# Altium footprint library Footprints.PcbLib: 43 footprints (part 2 of 3)
Each footprint in its own frame and in the unit in brackets; x right, y up, seen from the top. Pads: shape width x height; smd on the part's side, far side on the other; paste and mask are expansions set on the pad; w line width, h text height; cw(c..) or ccw(c..) is an arc to the next point about the centre after c.
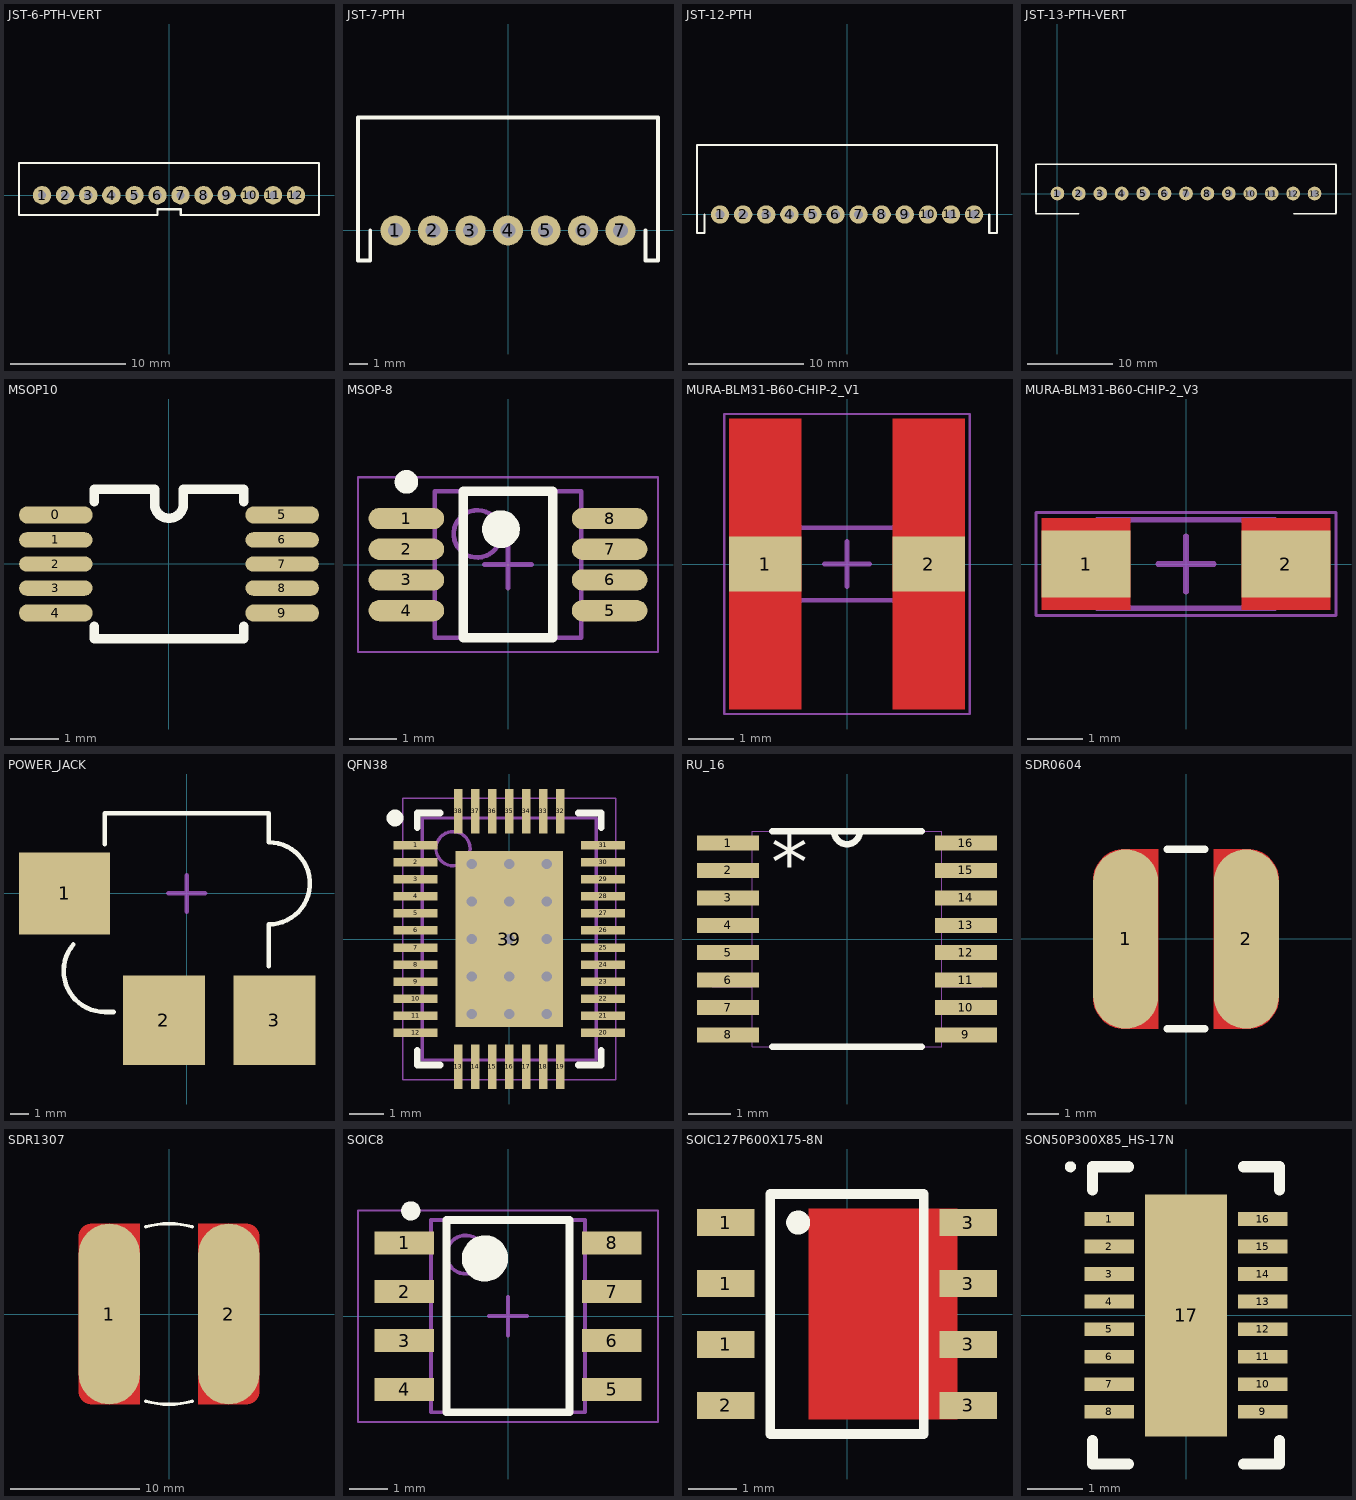
[diagram p1: the footprints below, top view; thin cyan lines are the x and y axes]

## JST-6-PTH-VERT [mil]
pads (12):
  round 63 hole 28: 1(-433.07,0) 2(-354.33,0) 3(-275.59,0) 4(-196.59,0) 5(-117.59,0) 6(-39.37,0) 7(39.37,0) 8(118.11,0) 9(196.85,0) 10(275.85,0) 11(354.85,0) 12(433.07,0)
Top Overlay:
  lines w8: -511.81,-67.84 -511.81,110 511.81,110 511.81,-67.84 40,-67.84 40,-48.16 -39.37,-48.16 -39.37,-67.84 -511.81,-67.84
3D body "B12B-PH-K-S.STEP": height 236.22, standoff -133.86, extent -511.81,-70.87 507.87,106.3

## JST-7-PTH [mil]
pads (7):
  round 63 hole 31.5: 1(-236.48,0) 2(-157.74,0) 3(-79,0) 4(0,0) 5(79,0) 6(157.22,0) 7(235.96,0)
Top Overlay:
  lines w8: -315.22,237 -315.22,-62.99 -289.63,-62.99 -289.63,0 ; -314.96,237 314.96,237 314.96,-62.99 288.96,-62.99 288.96,0
3D body "B7B-PH-SM4-TB.STEP": height 197.83, standoff -77.76, extent -356.3,-7.87 350.39,251.97

## JST-12-PTH [mil]
pads (12):
  round 63 hole 31.5: 1(-433.07,0) 2(-354.33,0) 3(-275.59,0) 4(-196.59,0) 5(-117.59,0) 6(-39.37,0) 7(39.37,0) 8(118.11,0) 9(197.11,0) 10(276.11,0) 11(354.59,0) 12(433.59,0)
Top Overlay:
  lines w8: -486.22,0 -486.22,-62.99 -511.81,-62.99 -511.81,237 511.81,237 511.81,-62.99 485.81,-62.99 485.81,0

## JST-13-PTH-VERT [mil]
pads (13):
  round 63 hole 31.5: 1(0,0) 2(98.43,0) 3(196.85,0) 4(295.28,0) 5(393.7,0) 6(492.13,0) 7(590.55,0) 8(688.98,0) 9(787.4,0) 10(885.83,0) 11(984.25,0) 12(1082.68,0) 13(1181.1,0)
Top Overlay:
  lines w8: -98.43,-92.52 98.43,-92.52 ; -98.43,-86.61 -98.43,133.86 1279.53,133.86 ; 1086.61,-92.52 1277.56,-92.52 1279.53,-90.55 1279.53,129.92
3D body "B13B-XH-A.STEP": height 275.59, standoff -133.86, extent -96.46,-93.51 1277.56,132.87

## MSOP10 [mm]
pads (10):
  oval 1.53x0.36 smd mask+0.076: 0(-2.352,1.02) 4(-2.352,-1.02) 5(2.353,1.02) 9(2.353,-1.02)
  oval 1.53x0.32 smd mask+0.076: 1(-2.352,0.5) 2(-2.352,0) 3(-2.352,-0.5) 6(2.353,0.5) 7(2.353,0) 8(2.353,-0.5)
Top Overlay:
  lines w0.2: -1.55,-1.3 -1.55,-1.55 1.55,-1.55 1.55,-1.3 ; -1.55,1.3 -1.55,1.55 -0.3,1.55 -0.3,1.25 ccw(c0,1.25) 0.3,1.25 0.3,1.55 1.55,1.55 1.55,1.3
3D body: height 1, standoff 0, extent -1.5,-1.5 1.5,1.5

## MSOP-8 [mm] "SOP, 8-Leads, Body 3x3mm, Pitch 0.65mm, IPC Medium Density"
pads (8):
  oval 1.6x0.45 smd: 1(-2.15,0.975) 2(-2.15,0.325) 3(-2.15,-0.325) 4(-2.15,-0.975) 5(2.15,-0.975) 6(2.15,-0.325) 7(2.15,0.325) 8(2.15,0.975)
Top Overlay:
  circle w0.25: c-2.15,1.75 r0.125
  circle w0.4: c-0.15,0.75 r0.2
  lines w0.2: -0.95,-1.55 -0.95,1.55 0.95,1.55 0.95,-1.55 -0.95,-1.55
Mechanical 13:
  circle w0.1: c-0.65,0.65 r0.5
  lines w0.1: -1.55,-1.55 -1.55,1.55 1.55,1.55 1.55,-1.55 -1.55,-1.55
Mechanical 15:
  lines w0.05: -3.175,-1.85 -3.175,1.85 3.175,1.85 3.175,-1.85 -3.175,-1.85
  lines w0.1: -0.5,0 0.5,0 ; 0,-0.5 0,0.5
3D body: height 0.05, standoff 0, extent -1.55,-1.55 1.55,1.55

## MURA-BLM31-B60-CHIP-2_V1 [mm] "Hand Drawn, 2-Leads, Body 3.2x1.6mm, Pitch 3.6mm, 18um Land Pad Thickness"
height 1.3
pads (2):
  rect 1.6x1.2 smd mask+0: 1(-1.8,0) 2(1.8,0)
Top Layer:
  region: 2.6,3.2 1,3.2 1,-3.2 2.6,-3.2
  rectangle: -2.6,-3.2 -1,3.2
Mechanical 6:
  text "Land Pattern Adapted for 18um Land Pad Thickness" at -2.275,3.5 h0.1
Mechanical 13:
  lines w0.1: -1.6,-0.8 -1.6,0.8 1.6,0.8 1.6,-0.8 -1.6,-0.8
Mechanical 15:
  lines w0.05: -2.7,-3.3 -2.7,3.3 2.7,3.3 2.7,-3.3 -2.7,-3.3
  lines w0.1: -0.5,0 0.5,0 ; 0,-0.5 0,0.5
3D body: height 1.3, standoff 0, extent -1.6,-0.8 1.6,0.8

## MURA-BLM31-B60-CHIP-2_V3 [mm] "Chip Ferrite Bead, 2-Leads, Body 3.2x1.6mm, Height 1.3mm, 70um Land Pad Thickness, 6A Rated Current"
height 1.3
pads (2):
  rect 1.6x1.2 smd: 1(-1.8,0) 2(1.8,0)
Top Layer:
  rectangle: -2.6,-0.825 -1,0.825
  region: 2.6,0.825 1,0.825 1,-0.825 2.6,-0.825
Mechanical 13:
  lines w0.1: -1.6,-0.8 1.6,-0.8 1.6,0.8 -1.6,0.8 -1.6,-0.8
Mechanical 15:
  lines w0.05: -2.7,-0.925 2.7,-0.925 2.7,0.925 -2.7,0.925 -2.7,-0.925
  lines w0.1: -0.5,0 0.5,0 ; 0,-0.5 0,0.5
3D body: height 1.3, standoff 0, extent -1.6,-0.8 1.6,0.8

## POWER_JACK [mm]
pads (3):
  rect 5x4.5 smd: 1(-6.7,0)
  rect 4.5x4.9 smd: 2(-1.25,-6.95) 3(4.8,-6.95)
Top Overlay:
  lines w0.254: -6.224,-2.804 ccw(c-4.5,-4.25) -4.5,-6.5 -4,-6.5 ; -4.5,2.7 -4.5,4.4 4.5,4.4 4.5,2.8 cw(c4.5,0.55) 4.5,-1.7 4.5,-4
Mechanical 15:
  lines w0.254: -1,0 1,0 ; 0,-1 0,1
3D body "pj-070bh-smt.stp": height 14.1, standoff 0, extent -8.35,-8.9 7.135,4.4

## QFN38 [mm] "QFN, 38-Leads, Body 5,00x7,00mm, Pitch 0,50mm, Thermal Pad 3,25x5,75mm, IPC Medium Density"
height 0.75
pads (39):
  rect 1.3x0.25 smd: 1(-2.75,2.75) 2(-2.75,2.25) 3(-2.75,1.75) 4(-2.75,1.25) 5(-2.75,0.75) 6(-2.75,0.25) 7(-2.75,-0.25) 8(-2.75,-0.75) 9(-2.75,-1.25) 10(-2.75,-1.75) 11(-2.75,-2.25) 12(-2.75,-2.75) 20(2.75,-2.75) 21(2.75,-2.25) 22(2.75,-1.75) 23(2.75,-1.25) 24(2.75,-0.75) 25(2.75,-0.25) 26(2.75,0.25) 27(2.75,0.75) 28(2.75,1.25) 29(2.75,1.75) 30(2.75,2.25) 31(2.75,2.75)
  rect 0.25x1.3 smd: 13(-1.5,-3.75) 14(-1,-3.75) 15(-0.5,-3.75) 16(0,-3.75) 17(0.5,-3.75) 18(1,-3.75) 19(1.5,-3.75) 32(1.5,3.75) 33(1,3.75) 34(0.5,3.75) 35(0,3.75) 36(-0.5,3.75) 37(-1,3.75) 38(-1.5,3.75)
  rect 3.15x5.15 smd: 39(0,0)
via -1.1,2.2 diameter 0.6 hole 0.3
via 0,2.2 diameter 0.6 hole 0.3
via 1.1,2.2 diameter 0.6 hole 0.3
via -1.1,1.1 diameter 0.6 hole 0.3
via 0,1.1 diameter 0.6 hole 0.3
via 1.1,1.1 diameter 0.6 hole 0.3
via -1.1,0 diameter 0.6 hole 0.3
via 0,0 diameter 0.6 hole 0.3
via 1.1,0 diameter 0.6 hole 0.3
via -1.1,-1.1 diameter 0.6 hole 0.3
via 0,-1.1 diameter 0.6 hole 0.3
via 1.1,-1.1 diameter 0.6 hole 0.3
via -1.1,-2.2 diameter 0.6 hole 0.3
via 0,-2.2 diameter 0.6 hole 0.3
via 1.1,-2.2 diameter 0.6 hole 0.3
Top Overlay:
  circle w0.25: c-3.35,3.55 r0.125
  lines w0.2: -2.7,-3.275 -2.7,-3.7 -2.025,-3.7 ; -2.7,3.275 -2.7,3.7 -2.025,3.7 ; 2.025,-3.7 2.7,-3.7 2.7,-3.275 ; 2.025,3.7 2.7,3.7 2.7,3.275
Mechanical 13:
  circle w0.1: c-1.65,2.65 r0.5
  lines w0.1: -2.55,-3.55 -2.55,3.55 2.55,3.55 2.55,-3.55 -2.55,-3.55
Mechanical 15:
  lines w0.05: -3.125,-4.125 -3.125,4.125 3.125,4.125 3.125,-4.125 -3.125,-4.125
  lines w0.1: -0.5,0 0.5,0 ; 0,-0.5 0,0.5
3D body: height 0.75, standoff 0.05, extent -2.55,-3.55 2.55,3.55

## RU_16 [mil]
pads (16):
  rect 58x14 smd: 1(-111,89.57) 2(-111,63.98) 3(-111,38.39) 4(-111,12.8) 5(-111,-12.8) 6(-111,-38.39) 7(-111,-63.98) 8(-111,-89.57) 9(111,-89.57) 10(111,-63.98) 11(111,-38.39) 12(111,-12.8) 13(111,12.8) 14(111,38.39) 15(111,63.98) 16(111,89.57)
Top Overlay:
  lines w6: -69.61,-100.5 69.61,-100.5 ; -69.61,100.5 69.61,100.5 ; -12,100.5 ccw(c0,100.5) 12,100.5
  text "*" at -70.87,47.24 h50
Mechanical 1:
  lines w0: -12,100.5 ccw(c0,100.5) 12,100.5 ; -126,-95.57 -126,-83.57 -88.5,-83.57 -88.5,-95.57 -126,-95.57 ; -126,-69.98 -126,-57.98 -88.5,-57.98 -88.5,-69.98 -126,-69.98 ; -126,-44.39 -126,-32.39 -88.5,-32.39 -88.5,-44.39 -126,-44.39 ; -126,-18.8 -126,-6.8 -88.5,-6.8 -88.5,-18.8 -126,-18.8 ; -126,6.8 -126,18.8 -88.5,18.8 -88.5,6.8 -126,6.8 ; -126,32.39 -126,44.39 -88.5,44.39 -88.5,32.39 -126,32.39 ; -126,57.98 -126,69.98 -88.5,69.98 -88.5,57.98 -126,57.98 ; -126,83.57 -126,95.57 -88.5,95.57 -88.5,83.57 -126,83.57 ; -88.5,-100.5 88.5,-100.5 88.5,100.5 -88.5,100.5 -88.5,-100.5 ; 88.5,-95.57 88.5,-83.57 126,-83.57 126,-95.57 88.5,-95.57 ; 88.5,-69.98 88.5,-57.98 126,-57.98 126,-69.98 88.5,-69.98 ; 88.5,-44.39 88.5,-32.39 126,-32.39 126,-44.39 88.5,-44.39 ; 88.5,-18.8 88.5,-6.8 126,-6.8 126,-18.8 88.5,-18.8 ; 88.5,6.8 88.5,18.8 126,18.8 126,6.8 88.5,6.8 ; 88.5,32.39 88.5,44.39 126,44.39 126,32.39 88.5,32.39 ; 88.5,57.98 88.5,69.98 126,69.98 126,57.98 88.5,57.98 ; 88.5,83.57 88.5,95.57 126,95.57 126,83.57 88.5,83.57
3D body "tssop_16.step": height 47.62, standoff -0.38, extent -131.41,-98.51 120.64,98.34

## SDR0604 [mm]
pads (2):
  rrect100% 2.1x5.8 smd: 1(-1.95,0) 2(1.95,0)
Top Layer:
  region: 2,2.9 0.9,2.9 0.9,-2.9 2,-2.9 2.098,-2.9 2.292,-2.862 2.474,-2.786 2.637,-2.677 2.777,-2.537 2.886,-2.374 2.962,-2.192 3,-1.998 3,-1.9 3,1.9 3,1.998 2.962,2.192 2.886,2.374 2.777,2.537 2.638,2.677 2.474,2.786 2.292,2.862 2.099,2.9
  region: -2,2.9 -0.9,2.9 -0.9,-2.9 -2,-2.9 -2.098,-2.9 -2.292,-2.862 -2.474,-2.786 -2.637,-2.677 -2.777,-2.537 -2.886,-2.374 -2.962,-2.192 -3,-1.999 -3,-1.9 -3,1.9 -3,1.999 -2.962,2.192 -2.886,2.374 -2.777,2.537 -2.637,2.677 -2.474,2.786 -2.292,2.862 -2.099,2.9
Top Overlay:
  lines w0.254: -0.6,-2.9 0.6,-2.9 ; -0.6,2.9 0.6,2.9
3D body "User Library-SDR0604.step": height 4.55, standoff 0, extent -2.754,-2.8 2.754,2.8

## SDR1307 [mm]
pads (2):
  rrect100% 4.75x14 smd: 1(-4.625,0) 2(4.625,0)
Top Layer:
  region: -6,7 -2.25,7 -2.25,-7 -6,-7 -6.098,-7 -6.292,-6.962 -6.474,-6.886 -6.637,-6.777 -6.777,-6.637 -6.886,-6.474 -6.962,-6.292 -7,-6.098 -7,-6 -7,6 -7,6.098 -6.962,6.292 -6.886,6.474 -6.777,6.637 -6.637,6.777 -6.474,6.886 -6.292,6.962 -6.098,7
  region: 6,7 2.25,7 2.25,-7 6,-7 6.098,-7 6.292,-6.962 6.474,-6.886 6.637,-6.777 6.777,-6.637 6.886,-6.474 6.962,-6.292 7,-6.098 7,-6 7,6 7,6.098 6.962,6.292 6.886,6.474 6.777,6.637 6.637,6.777 6.474,6.886 6.292,6.962 6.098,7
Top Overlay:
  lines w0.254: -1.812,-6.761 ccw(c0,0) 1.812,-6.761 ; -1.812,6.761 cw(c0,0) 1.812,6.761

## SOIC8 [mm] "SOIC, 8-Leads, Body 4.90x3.90mm, Pitch 1.27mm, IPC Medium Density"
height 1.75
pads (8):
  rect 1.55x0.6 smd: 1(-2.7,1.905) 2(-2.7,0.635) 3(-2.7,-0.635) 4(-2.7,-1.905) 5(2.7,-1.905) 6(2.7,-0.635) 7(2.7,0.635) 8(2.7,1.905)
Top Overlay:
  circle w0.6: c-0.6,1.5 r0.3
  circle w0.25: c-2.528,2.735 r0.125
  lines w0.2: -1.6,-2.5 1.6,-2.5 1.6,2.5 -1.6,2.5 -1.6,-2.5
Mechanical 13:
  circle w0.1: c-1.1,1.6 r0.5
  lines w0.1: -2,-2.5 2,-2.5 2,2.5 -2,2.5 -2,-2.5
Mechanical 15:
  lines w0.05: -3.9,-2.75 3.9,-2.75 3.9,2.75 -3.9,2.75 -3.9,-2.75
  lines w0.1: -0.5,0 0.5,0 ; 0,-0.5 0,0.5
3D body: height 1.75, standoff 0.1, extent -2,-2.5 2,2.5

## SOIC127P600X175-8N [mm] "SOIC, 8-Leads, Body 4.90x3.90mm, Pitch 1.27mm, IPC Medium Density"
height 1.75
pads (8):
  rect 1.194x0.56 smd: 1(-2.528,-0.635) 1(-2.528,0.635) 1(-2.528,1.905) 2(-2.528,-1.905) 3(2.527,-1.905) 3(2.527,-0.635) 3(2.527,0.635) 3(2.527,1.905)
Top Layer:
  rectangle: -0.8,-2.2 2.3,2.2
Top Overlay:
  circle w0.25: c-1.016,1.905 r0.125
  lines w0.2: -1.6,-2.5 -1.6,2.5 1.6,2.5 1.6,-2.5 -1.6,-2.5
3D body: height 1.75, standoff 0.1, extent -2.025,-2.5 1.975,2.5

## SON50P300X85_HS-17N [mm] "SON, 16-Leads, Body 5.00x3.00mm, Pitch 0.50mm, Thermal Pad 4.40x1.49mm, IPC Medium Density"
height 0.85
pads (17):
  rect 0.9x0.25 smd mask+0.076: 1(-1.395,1.75) 2(-1.395,1.25) 3(-1.395,0.75) 4(-1.395,0.25) 5(-1.395,-0.25) 6(-1.395,-0.75) 7(-1.395,-1.25) 8(-1.395,-1.75) 9(1.395,-1.75) 10(1.395,-1.25) 11(1.395,-0.75) 12(1.395,-0.25) 13(1.395,0.25) 14(1.395,0.75) 15(1.395,1.25) 16(1.395,1.75)
  rect 1.49x4.4 smd mask+0.076: 17(0,0)
Top Overlay:
  circle w0.1: c-2.1,2.7 r0.05
  lines w0.2: -1.7,-2.275 -1.7,-2.7 -1.045,-2.7 ; -1.7,2.275 -1.7,2.7 -1.045,2.7 ; 1.045,-2.7 1.7,-2.7 1.7,-2.275 ; 1.045,2.7 1.7,2.7 1.7,2.275
3D body "User Library-DFN-12.STEP": height 0.8, standoff 0, extent -1.56,-2.05 1.56,2.05